# EAGLE library part M2X06 (library X893)
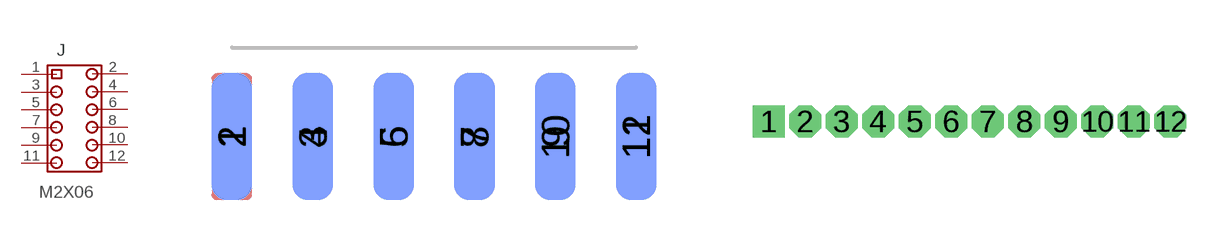
[diagram p161: symbol with the pads of PLANAR-2X06; footprints PLANAR-2X06, PLANAR-2X06-1.27]

Designator prefix J

## M2X06-P  [PLANAR-2X06]
1  1
2  2
3  3
4  4
5  5
6  6
7  7
8  8
9  9
10  10
11  11
12  12

## M2X06-PHT-1.27  [PLANAR-2X06-1.27]
Pads as for PLANAR-2X06

## Footprint PLANAR-2X06 (pad centres in mm)
smd 1.27 x 4: 1 -6.35,-2.8; 3 -3.81,-2.8; 5 -1.27,-2.8; 7 1.27,-2.8; 9 3.81,-2.8; 11 6.35,-2.8
smd 1.27 x 4 bottom: 2 -6.35,-2.8; 4 -3.81,-2.8; 6 -1.27,-2.8; 8 1.27,-2.8; 10 3.81,-2.8; 12 6.35,-2.8

## Footprint PLANAR-2X06-1.27 (pad centres in mm)
drill 0.6 pad 1 square: 1 0,0
drill 0.6 pad 1 octagon: 2 1.27,0; 3 2.54,0; 4 3.81,0; 5 5.08,0; 6 6.35,0; 7 7.62,0; 8 8.89,0; 9 10.16,0; 10 11.43,0; 11 12.7,0; 12 13.97,0